# Altium schematic symbol library SN74LVC2G132DCUR.SchLib: 2 symbols
Pins are listed as number, name and electrical type; pins without a type are passive.

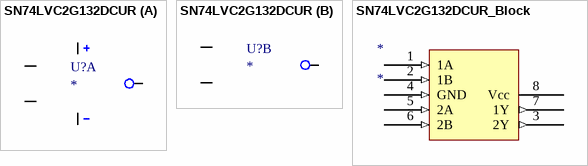
[diagram p0: symbols SN74LVC2G132DCUR to SN74LVC2G132DCUR_Block]

## SN74LVC2G132DCUR
designator U?
part A pins: 1 1A, 2 1B, 4 GND, 7 1Y, 8 Vcc
part B pins: 3 2Y, 5 2A, 6 2B

## SN74LVC2G132DCUR_Block
designator *
pins: 1 1A (in), 2 1B (in), 3 2Y (out), 4 GND (in), 5 2A (in), 6 2B (in), 7 1Y (out), 8 Vcc (power)